# Altium schematic symbol library Mosfet_sch.SchLib: 4 symbols
Pins are listed as number, name and electrical type; pins without a type are passive.

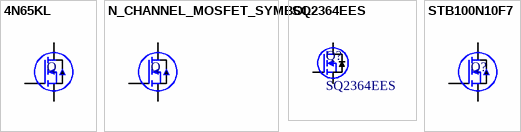
[diagram p0: symbols 4N65KL to STB100N10F7]

## 4N65KL
designator Q
footprint TO-220F-VERTICAL
pins: 1 G, 2 D, 3 S

## N_CHANNEL_MOSFET_SYMBOL
designator Q
pins: 1 G, 2 D, 3 S

## SQ2364EES
designator Q?
Trans MOSFET N-CH 60V 2A Automotive 3-Pin SOT-23 T/R; Manufacturer: Vishay; Manufacturer Part Number: SQ2364EES-T1_GE3; Supplier 1: Digi-Key; RoHS: No; Stock 1: 15433; Pricing 1: 1=0.61000, 10=0.52300, 25=0.48960, 100=0.36380, 500=0.28404, 1000=0.23087 (USD); ComponentLink1URL: http://www.farnell.com/datasheets/2611857.pdf?src-supplier=Farnell; ComponentLink1Description: http://www.farnell.com/datasheets/2611857.pdf?src-supplier=Farnell; ComponentLink2URL: http://www.farnell.com/datasheets/2611857.pdf?src-supplier=Newark; ComponentLink2Description: http://www.farnell.com/datasheets/2611857.pdf?src-supplier=Newark
footprint Model Name (Model Description)
footprint SOT23-(SQ2364EES)_H
footprint SOT23-(SQ2364EES)_L
footprint SOT23-(SQ2364EES)_M
pins: 1 G, 2 S, 3 D

## STB100N10F7
designator Q?
footprint D2PAK
pins: 1 G, 2 D, 3 S